# Altium schematic symbol library Header.SchLib: 1 symbol
Pins are listed as number, name and electrical type; pins without a type are passive.

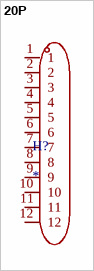
[diagram p0: symbol 20P]

## 20P
designator H?
footprint 20P
pins: 1, 2, 3, 4, 5, 6, 7, 8, 9, 10, 11, 12